# Altium schematic symbol library Schlib1.SchLib: 1 symbol
Pins are listed as number, name and electrical type; pins without a type are passive.

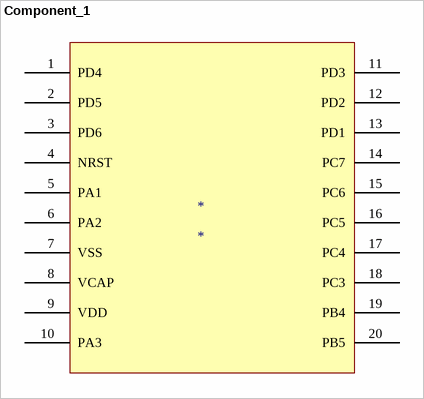
[diagram p0: symbol Component_1]

## Component_1
designator *
pins: 1 PD4, 2 PD5, 3 PD6, 4 NRST, 5 PA1, 6 PA2, 7 VSS, 8 VCAP, 9 VDD, 10 PA3, 11 PD3, 12 PD2, 13 PD1, 14 PC7, 15 PC6, 16 PC5, 17 PC4, 18 PC3, 19 PB4, 20 PB5